# EAGLE library part M-02990_AE-FT2232 (library Akizuki)
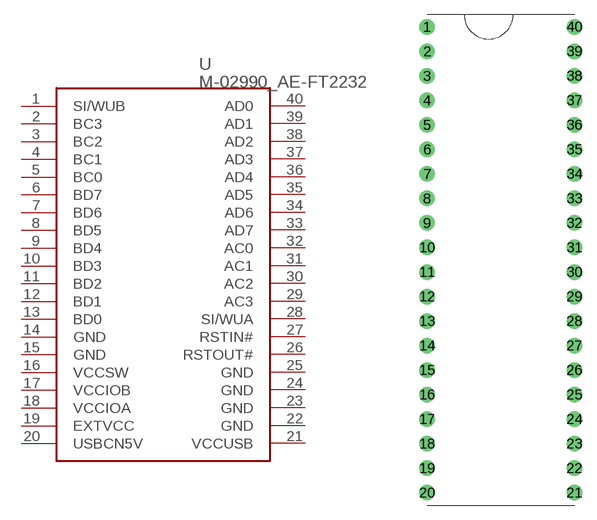
[diagram p41: symbol with the pads of AE-FT2232; footprint AE-FT2232]

Designator prefix U

## M-02990_AE-FT2232  [AE-FT2232]
1  SI/WUB
2  BC3
3  BC2
4  BC1
5  BC0
6  BD7
7  BD6
8  BD5
9  BD4
10  BD3
11  BD2
12  BD1
13  BD0
14  GND
15  GND
16  VCCSW
17  VCCIOB
18  VCCIOA
19  EXTVCC
20  USBCN5V
21  VCCUSB
22  GND
23  GND
24  GND
25  GND
26  RSTOUT#
27  RSTIN#
28  SI/WUA
29  AC3
30  AC2
31  AC1
32  AC0
33  AD7
34  AD6
35  AD5
36  AD4
37  AD3
38  AD2
39  AD1
40  AD0

## Footprint AE-FT2232 (pad centres in mm)
drill 0.8 pad 1.6: 1 -5.08,15.24; 2 -5.08,12.7; 3 -5.08,10.16; 4 -5.08,7.62; 5 -5.08,5.08; 6 -5.08,2.54; 7 -5.08,0; 8 -5.08,-2.54; 9 -5.08,-5.08; 10 -5.08,-7.62; 11 -5.08,-10.16; 12 -5.08,-12.7; 13 -5.08,-15.24; 14 -5.08,-17.78; 15 -5.08,-20.32; 16 -5.08,-22.86; 17 -5.08,-25.4; 18 -5.08,-27.94; 19 -5.08,-30.48; 20 -5.08,-33.02; 21 10.16,-33.02; 22 10.16,-30.48; 23 10.16,-27.94; 24 10.16,-25.4; 25 10.16,-22.86; 26 10.16,-20.32; 27 10.16,-17.78; 28 10.16,-15.24; 29 10.16,-12.7; 30 10.16,-10.16; 31 10.16,-7.62; 32 10.16,-5.08; 33 10.16,-2.54; 34 10.16,0; 35 10.16,2.54; 36 10.16,5.08; 37 10.16,7.62; 38 10.16,10.16; 39 10.16,12.7; 40 10.16,15.24